# Altium schematic symbol library RaspberryPi4B+.SchLib: 1 symbol
Pins are listed as number, name and electrical type; pins without a type are passive.

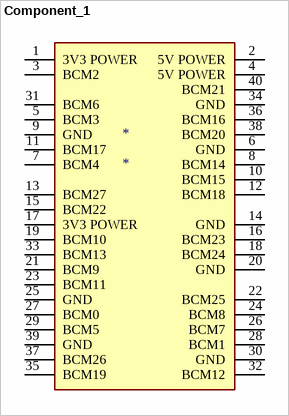
[diagram p0: symbol Component_1]

## Component_1
designator *
pins: 1 3V3 POWER, 2 5V POWER, 3 BCM2, 4 5V POWER, 5 BCM3, 6 GND, 7 BCM4, 8 BCM14, 9 GND, 10 BCM15, 11 BCM17, 12 BCM18, 13 BCM27, 14 GND, 15 BCM22, 16 BCM23, 17 3V3 POWER, 18 BCM24, 19 BCM10, 20 GND, 21 BCM9, 22 BCM25, 23 BCM11, 24 BCM8, 25 GND, 26 BCM7, 27 BCM0, 28 BCM1, 29 BCM5, 30 GND, 31 BCM6, 32 BCM12, 33 BCM13, 34 GND, 35 BCM19, 36 BCM16, 37 BCM26, 38 BCM20, 39 GND, 40 BCM21